# Altium footprint library quadcopter_pcb.PcbLib: 27 footprints (part 1 of 2)
Each footprint in its own frame and in the unit in brackets; x right, y up, seen from the top. Pads: shape width x height; smd on the part's side, far side on the other; paste and mask are expansions set on the pad; w line width, h text height; cw(c..) or ccw(c..) is an arc to the next point about the centre after c.
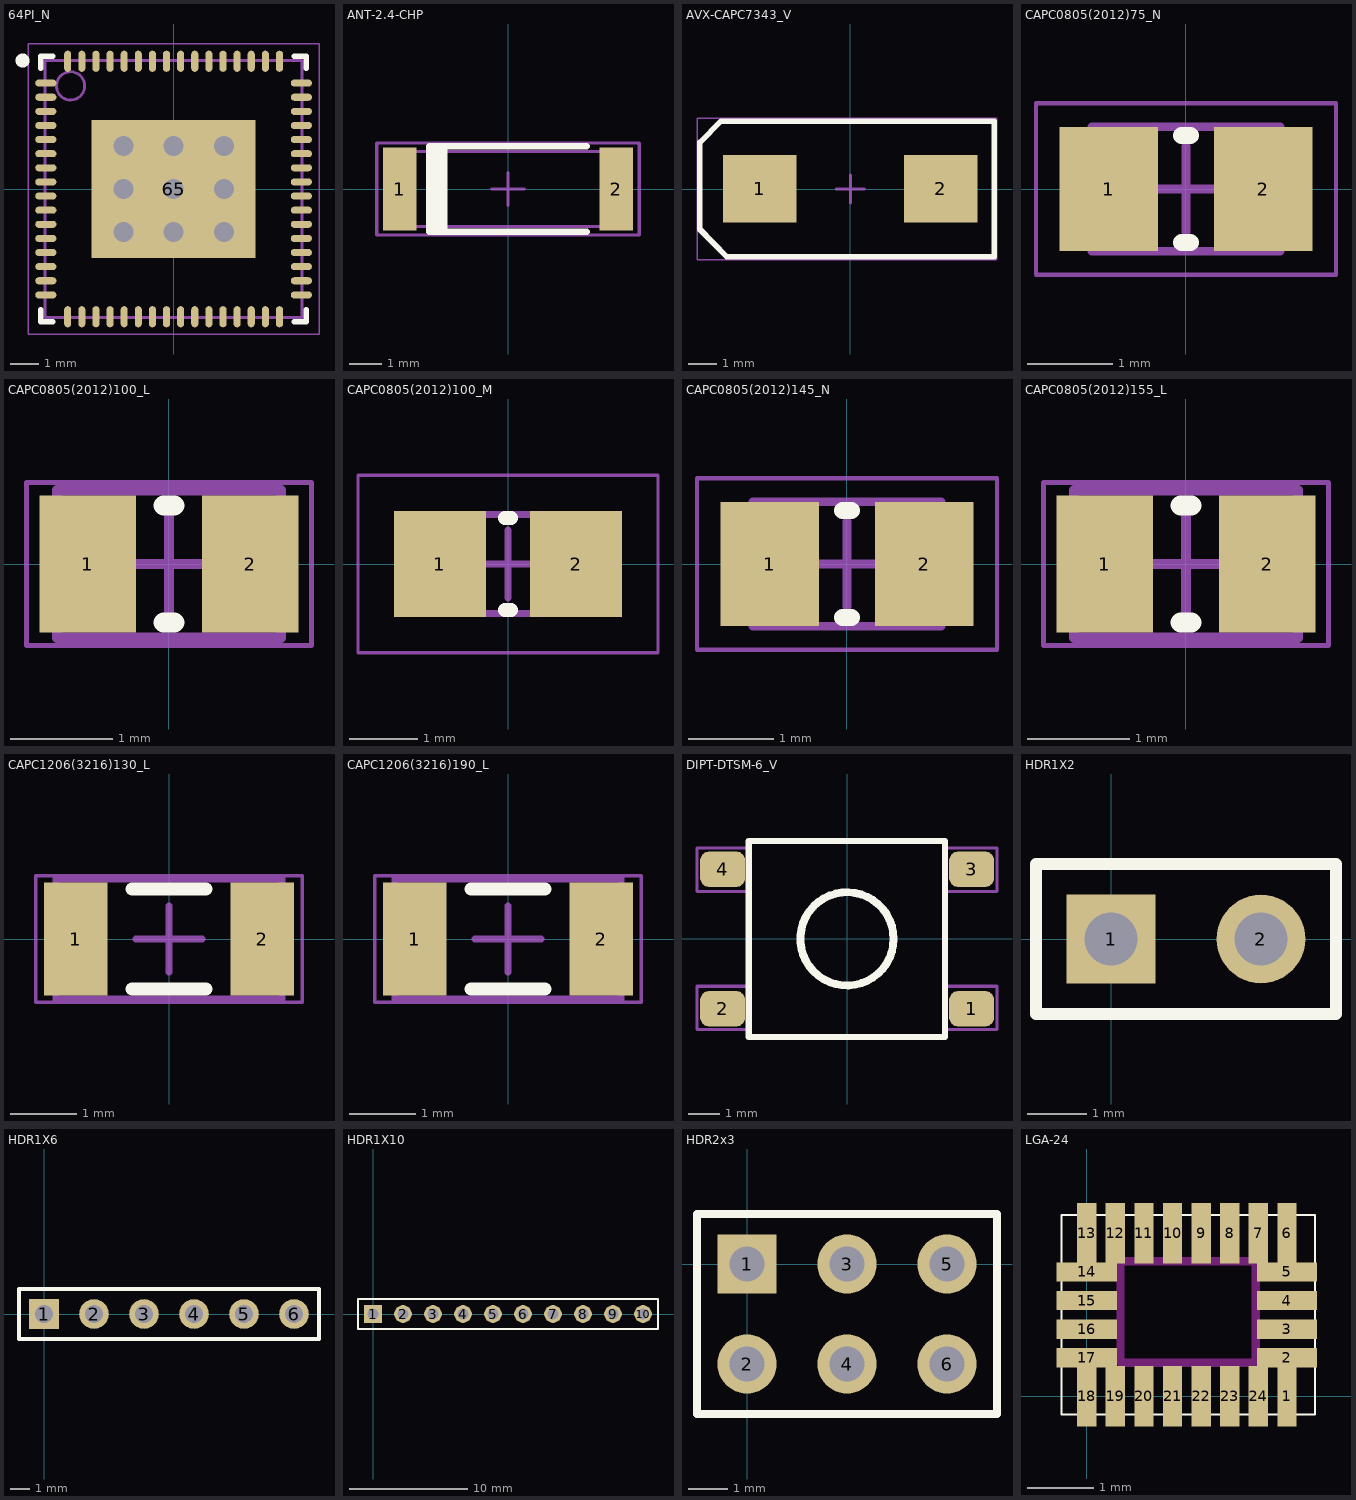
[diagram p0: the footprints below, top view; thin cyan lines are the x and y axes]

## 64PI_N [mm]
pads (65):
  oval 0.75x0.25 smd: 1(-4.525,3.75) 2(-4.525,3.25) 3(-4.525,2.75) 4(-4.525,2.25) 5(-4.525,1.75) 6(-4.525,1.25) 7(-4.525,0.75) 8(-4.525,0.25) 9(-4.525,-0.25) 10(-4.525,-0.75) 11(-4.525,-1.25) 12(-4.525,-1.75) 13(-4.525,-2.25) 14(-4.525,-2.75) 15(-4.525,-3.25) 16(-4.525,-3.75) 33(4.525,-3.75) 34(4.525,-3.25) 35(4.525,-2.75) 36(4.525,-2.25) 37(4.525,-1.75) 38(4.525,-1.25) 39(4.525,-0.75) 40(4.525,-0.25) 41(4.525,0.25) 42(4.525,0.75) 43(4.525,1.25) 44(4.525,1.75) 45(4.525,2.25) 46(4.525,2.75) 47(4.525,3.25) 48(4.525,3.75)
  oval 0.25x0.75 smd: 17(-3.75,-4.525) 18(-3.25,-4.525) 19(-2.75,-4.525) 20(-2.25,-4.525) 21(-1.75,-4.525) 22(-1.25,-4.525) 23(-0.75,-4.525) 24(-0.25,-4.525) 25(0.25,-4.525) 26(0.75,-4.525) 27(1.25,-4.525) 28(1.75,-4.525) 29(2.25,-4.525) 30(2.75,-4.525) 31(3.25,-4.525) 32(3.75,-4.525) 49(3.75,4.525) 50(3.25,4.525) 51(2.75,4.525) 52(2.25,4.525) 53(1.75,4.525) 54(1.25,4.525) 55(0.75,4.525) 56(0.25,4.525) 57(-0.25,4.525) 58(-0.75,4.525) 59(-1.25,4.525) 60(-1.75,4.525) 61(-2.25,4.525) 62(-2.75,4.525) 63(-3.25,4.525) 64(-3.75,4.525)
  rect 5.8x4.9 smd: 65(0,0)
via -1.778,1.524 diameter 1.27 hole 0.711
via 0,1.524 diameter 1.27 hole 0.711
via 1.778,1.524 diameter 1.27 hole 0.711
via 1.778,0 diameter 1.27 hole 0.711
via 0,0 diameter 1.27 hole 0.711
via -1.778,0 diameter 1.27 hole 0.711
via -1.778,-1.524 diameter 1.27 hole 0.711
via 0,-1.524 diameter 1.27 hole 0.711
via 1.778,-1.524 diameter 1.27 hole 0.711
Top Overlay:
  circle w0.25: c-5.35,4.55 r0.125
  lines w0.2: -4.7,-4.275 -4.7,-4.7 -4.275,-4.7 ; -4.7,4.275 -4.7,4.7 -4.275,4.7 ; 4.275,-4.7 4.7,-4.7 4.7,-4.275 ; 4.275,4.7 4.7,4.7 4.7,4.275
Mechanical 13:
  circle w0.1: c-3.65,3.65 r0.5
  lines w0.1: -4.55,-4.55 4.55,-4.55 4.55,4.55 -4.55,4.55 -4.55,-4.55
Mechanical 15:
  lines w0.05: -5.15,-5.15 5.15,-5.15 5.15,5.15 -5.15,5.15 -5.15,-5.15
  lines w0.1: -0.5,0 0.5,0 ; 0,-0.5 0,0.5
3D body: height 0.9, standoff 0, extent -4.55,-4.55 4.55,4.55

## ANT-2.4-CHP [mil]
pads (2):
  rect 40x100 smd: 1(-130,0) 2(130,0)
Top Overlay:
  rectangle: -94.48,-51.18 -72.83,51.18
  lines w7.87: 94.49,-51.18 -94.49,-51.18 -94.49,51.18 94.49,51.18
Mechanical 13:
  lines w3.94: -130,-45 -130,45 130,45 130,-45 -130,-45
Mechanical 15:
  lines w3.94: -19.69,0 19.68,0 ; 0,-19.68 0,19.69 ; 157.48,-55.12 157.48,55.12 ; 157.48,-55.12 157.48,-55.12 ; 157.48,-55.12 -157.48,-55.12 -157.48,55.12 157.48,55.12 ; 157.48,-55.12 157.48,55.12 ; 157.48,55.12 157.48,55.12
3D body: height 40, standoff 0, extent -130,-45 130,45

## AVX-CAPC7343_V [mm]
pads (2):
  rect 2.6x2.4 smd: 1(-3.202,0.007) 2(3.198,0.007)
Top Overlay:
  lines w0.2: -4.369,-2.4 5.08,-2.4 5.08,2.4 -4.575,2.4 -5.325,1.65 -5.325,-1.425 -4.362,-2.4
Mechanical 15:
  lines w0.05: -5.425,-2.5 -5.425,2.5 5.18,2.5 5.18,-2.5 -5.425,-2.5
  lines w0.1: -0.5,0 0.5,0 ; 0,-0.5 0,0.5
3D body "TAJD227K010R.step": height 2.9, standoff 0, extent -3.473,-2.032 3.473,2.039
3D body: height 0.3, standoff 0, extent -3.487,-0.869 -3.392,0.82
3D body: height 0.3, standoff 0, extent 3.308,-0.855 3.512,0.915

## CAPC0805(2012)75_N [mm]
pads (2):
  rect 1.15x1.45 smd: 1(-0.9,0) 2(0.9,0)
Top Overlay:
  lines w0.2: -0.05,-0.625 0.05,-0.625 ; -0.05,0.625 0.05,0.625
Mechanical 13:
  lines w0.1: -1.1,-0.725 1.1,-0.725 1.1,0.725 -1.1,0.725 -1.1,-0.725
Mechanical 15:
  lines w0.05: -1.75,-1 1.75,-1 1.75,1 -1.75,1 -1.75,-1
  lines w0.1: -0.5,0 0.5,0 ; 0,-0.5 0,0.5
3D body: height 0.75, standoff 0, extent 0.6,-0.725 1.1,0.725
3D body: height 0.75, standoff 0, extent -1.1,-0.725 -0.6,0.725
3D body: height 0.75, standoff 0, extent -0.6,-0.725 0.6,0.725

## CAPC0805(2012)100_L [mm]
pads (2):
  rect 0.95x1.35 smd: 1(-0.8,0) 2(0.8,0)
Top Overlay:
  lines w0.2: -0.05,-0.575 0.05,-0.575 ; -0.05,0.575 0.05,0.575
Mechanical 13:
  lines w0.1: -1.1,-0.725 -1.1,0.725 1.1,0.725 1.1,-0.725 -1.1,-0.725
Mechanical 15:
  lines w0.05: -1.4,-0.8 -1.4,0.8 1.4,0.8 1.4,-0.8 -1.4,-0.8
  lines w0.1: -0.5,0 0.5,0 ; 0,-0.5 0,0.5
3D body: height 1, standoff 0, extent -0.6,-0.725 0.6,0.725
3D body: height 1, standoff 0, extent -1.1,-0.725 -0.6,0.725
3D body: height 1, standoff 0, extent 0.6,-0.725 1.1,0.725

## CAPC0805(2012)100_M [mm]
pads (2):
  rect 1.35x1.55 smd: 1(-1,0) 2(1,0)
Top Overlay:
  lines w0.2: -0.05,-0.675 0.05,-0.675 ; -0.05,0.675 0.05,0.675
Mechanical 13:
  lines w0.1: -1.1,-0.725 -1.1,0.725 1.1,0.725 1.1,-0.725 -1.1,-0.725
Mechanical 15:
  lines w0.05: -2.2,-1.3 -2.2,1.3 2.2,1.3 2.2,-1.3 -2.2,-1.3
  lines w0.1: -0.5,0 0.5,0 ; 0,-0.5 0,0.5
3D body: height 1, standoff 0, extent -0.6,-0.725 0.6,0.725
3D body: height 1, standoff 0, extent -1.1,-0.725 -0.6,0.725
3D body: height 1, standoff 0, extent 0.6,-0.725 1.1,0.725

## CAPC0805(2012)145_N [mm]
pads (2):
  rect 1.15x1.45 smd: 1(-0.9,0) 2(0.9,0)
Top Overlay:
  lines w0.2: -0.05,-0.625 0.05,-0.625 ; -0.05,0.625 0.05,0.625
Mechanical 13:
  lines w0.1: -1.1,-0.725 -1.1,0.725 1.1,0.725 1.1,-0.725 -1.1,-0.725
Mechanical 15:
  lines w0.05: -1.75,-1 -1.75,1 1.75,1 1.75,-1 -1.75,-1
  lines w0.1: -0.5,0 0.5,0 ; 0,-0.5 0,0.5
3D body: height 1.45, standoff 0, extent -0.6,-0.725 0.6,0.725
3D body: height 1.45, standoff 0, extent -1.1,-0.725 -0.6,0.725
3D body: height 1.45, standoff 0, extent 0.6,-0.725 1.1,0.725

## CAPC0805(2012)155_L [mm]
pads (2):
  rect 0.95x1.35 smd: 1(-0.8,0) 2(0.8,0)
Top Overlay:
  lines w0.2: -0.05,-0.575 0.05,-0.575 ; -0.05,0.575 0.05,0.575
Mechanical 13:
  lines w0.1: -1.1,-0.725 -1.1,0.725 1.1,0.725 1.1,-0.725 -1.1,-0.725
Mechanical 15:
  lines w0.05: -1.4,-0.8 -1.4,0.8 1.4,0.8 1.4,-0.8 -1.4,-0.8
  lines w0.1: -0.5,0 0.5,0 ; 0,-0.5 0,0.5
3D body: height 1.55, standoff 0, extent -0.6,-0.725 0.6,0.725
3D body: height 1.55, standoff 0, extent -1.1,-0.725 -0.6,0.725
3D body: height 1.55, standoff 0, extent 0.6,-0.725 1.1,0.725

## CAPC1206(3216)130_L [mm]
pads (2):
  rect 0.95x1.7 smd: 1(-1.4,0) 2(1.4,0)
Top Overlay:
  lines w0.2: -0.55,-0.75 0.55,-0.75 ; -0.55,0.75 0.55,0.75
Mechanical 13:
  lines w0.1: -1.7,-0.9 -1.7,0.9 1.7,0.9 1.7,-0.9 -1.7,-0.9
Mechanical 15:
  lines w0.05: -2,-0.95 -2,0.95 2,0.95 2,-0.95 -2,-0.95
  lines w0.1: -0.5,0 0.5,0 ; 0,-0.5 0,0.5
3D body: height 1.3, standoff 0, extent -1.2,-0.9 1.2,0.9
3D body: height 1.3, standoff 0, extent -1.7,-0.9 -1.2,0.9
3D body: height 1.3, standoff 0, extent 1.2,-0.9 1.7,0.9

## CAPC1206(3216)190_L [mm]
pads (2):
  rect 0.95x1.7 smd: 1(-1.4,0) 2(1.4,0)
Top Overlay:
  lines w0.2: -0.55,-0.75 0.55,-0.75 ; -0.55,0.75 0.55,0.75
Mechanical 13:
  lines w0.1: -1.7,-0.9 -1.7,0.9 1.7,0.9 1.7,-0.9 -1.7,-0.9
Mechanical 15:
  lines w0.05: -2,-0.95 -2,0.95 2,0.95 2,-0.95 -2,-0.95
  lines w0.1: -0.5,0 0.5,0 ; 0,-0.5 0,0.5
3D body: height 1.9, standoff 0, extent -1.2,-0.9 1.2,0.9
3D body: height 1.9, standoff 0, extent -1.7,-0.9 -1.2,0.9
3D body: height 1.9, standoff 0, extent 1.2,-0.9 1.7,0.9

## DIPT-DTSM-6_V [mm]
pads (4):
  rrect50% 1.448x1.143 smd: 1(4.01,-2.25) 2(-4,-2.25) 3(4.01,2.24) 4(-4,2.24)
Top Overlay:
  circle w0.254: c0,0 r1.5
  lines w0.2: -3.16,-3.16 3.15,-3.16 3.15,3.15 -3.16,3.15 -3.16,-3.16
Mechanical 7:
  circle w0.1: c0,0 r1.5
  lines w0.1: -3.16,-2.921 -4.826,-2.921 -4.826,-1.524 -3.16,-1.524 ; -3.16,1.524 -4.826,1.524 -4.826,2.921 -3.16,2.921 ; 3.15,-2.921 4.826,-2.921 4.826,-1.524 3.15,-1.524 ; 3.15,1.524 4.826,1.524 4.826,2.921 3.15,2.921 ; -3.16,-3.16 -3.16,3.15 3.15,3.15 3.15,-3.16 -3.16,-3.16
  text ".Designator" at -2.9,2.1 h1.2
  text ".Comment" at -2.9,-2.6 h1.2
3D body "Switch SPNO - DTSM-6.stp": height 4.5, standoff 0, extent -4.5,-3.1 4.5,3.1

## HDR1X2 [mm]
pads (2):
  rect 1.5x1.5 hole 0.9: 1(0,0)
  round 1.5 hole 0.9: 2(2.54,0)
Top Overlay:
  lines w0.2: -1.27,-1.27 -1.27,1.27 3.81,1.27 3.81,-1.27 -1.27,-1.27

## HDR1X6 [mm]
pads (6):
  rect 1.5x1.5 hole 0.9: 1(0,0)
  round 1.5 hole 0.9: 2(2.54,0) 3(5.08,0) 4(7.62,0) 5(10.16,0) 6(12.7,0)
Top Overlay:
  lines w0.2: -1.27,-1.27 -1.27,1.27 13.97,1.27 13.97,-1.27 -1.27,-1.27

## HDR1X10 [mm]
pads (10):
  rect 1.5x1.5 hole 0.9: 1(0,0)
  round 1.5 hole 0.9: 2(2.54,0) 3(5.08,0) 4(7.62,0) 5(10.16,0) 6(12.7,0) 7(15.24,0) 8(17.78,0) 9(20.32,0) 10(22.86,0)
Top Overlay:
  lines w0.2: -1.27,-1.27 -1.27,1.27 24.13,1.27 24.13,-1.27 -1.27,-1.27

## HDR2x3 [mm]
pads (6):
  rect 1.5x1.5 hole 0.9: 1(0,0)
  round 1.5 hole 0.9: 2(0,-2.54) 3(2.54,0) 4(2.54,-2.54) 5(5.08,0) 6(5.08,-2.54)
Top Overlay:
  lines w0.2: -1.27,-3.81 -1.27,1.27 6.35,1.27 6.35,-3.81 -1.27,-3.81

## LGA-24 [mm]
pads (24):
  rect 0.29x0.908 smd paste-25.4 mask-25.4: 1(3.01,0) 6(3.01,2.45) 7(2.58,2.45) 8(2.15,2.45) 9(1.72,2.45) 10(1.29,2.45) 11(0.86,2.45) 12(0.43,2.45) 13(0,2.45) 18(0,0) 19(0.43,0) 20(0.86,0) 21(1.29,0) 22(1.72,0) 23(2.15,0) 24(2.58,0)
  rect 0.908x0.29 smd paste-25.4 mask-25.4: 2(3.01,0.58) 3(3.01,1.01) 4(3.01,1.44) 5(3.01,1.87) 14(0,1.87) 15(0,1.44) 16(0,1.01) 17(0,0.58)
Top Overlay:
  lines w0.03: -0.381,-0.275 3.429,-0.275 3.429,2.725 -0.381,2.725 -0.381,-0.275
Top Paste:
  region: 3.155,2.65 2.865,2.65 2.865,2.25 3.155,2.25
  region: 2.81,2.015 2.81,1.725 3.21,1.725 3.21,2.015
  region: 2.81,1.585 2.81,1.295 3.21,1.295 3.21,1.585
  region: 2.81,1.155 2.81,0.865 3.21,0.865 3.21,1.155
  region: 2.81,0.725 2.81,0.435 3.21,0.435 3.21,0.725
  region: 2.865,-0.2 3.155,-0.2 3.155,0.2 2.865,0.2
  region: 2.435,-0.2 2.725,-0.2 2.725,0.2 2.435,0.2
  region: 2.005,-0.2 2.295,-0.2 2.295,0.2 2.005,0.2
  region: 1.575,-0.2 1.865,-0.2 1.865,0.2 1.575,0.2
  region: 1.145,-0.2 1.435,-0.2 1.435,0.2 1.145,0.2
  region: 0.715,-0.2 1.005,-0.2 1.005,0.2 0.715,0.2
  region: 0.285,-0.2 0.575,-0.2 0.575,0.2 0.285,0.2
  region: -0.145,-0.2 0.145,-0.2 0.145,0.2 -0.145,0.2
  region: 0.2,0.435 0.2,0.725 -0.2,0.725 -0.2,0.435
  region: 0.2,0.865 0.2,1.155 -0.2,1.155 -0.2,0.865
  region: 0.2,1.295 0.2,1.585 -0.2,1.585 -0.2,1.295
  region: 0.2,1.725 0.2,2.015 -0.2,2.015 -0.2,1.725
  region: 0.145,2.65 -0.145,2.65 -0.145,2.25 0.145,2.25
  region: 0.575,2.65 0.285,2.65 0.285,2.25 0.575,2.25
  region: 1.005,2.65 0.715,2.65 0.715,2.25 1.005,2.25
  region: 1.435,2.65 1.145,2.65 1.145,2.25 1.435,2.25
  region: 1.865,2.65 1.575,2.65 1.575,2.25 1.865,2.25
  region: 2.295,2.65 2.005,2.65 2.005,2.25 2.295,2.25
  region: 2.725,2.65 2.435,2.65 2.435,2.25 2.725,2.25
Top Solder:
  region: 3.255,3.238 2.794,3.238 2.794,2.15 3.255,2.15
  region: 2.71,2.095 2.71,1.676 3.746,1.676 3.746,2.095
  region: 2.71,1.651 2.71,1.245 3.746,1.245 3.746,1.651
  region: 2.71,1.219 2.71,0.813 3.746,0.813 3.746,1.219
  region: 2.71,0.787 2.71,0.356 3.746,0.356 3.746,0.787
  region: 2.807,-0.762 3.255,-0.762 3.255,0.3 2.807,0.3
  region: 2.375,-0.762 2.781,-0.762 2.781,0.3 2.375,0.3
  region: 1.956,-0.762 2.349,-0.762 2.349,0.3 1.956,0.3
  region: 1.524,-0.762 1.93,-0.762 1.93,0.3 1.524,0.3
  region: 1.079,-0.762 1.499,-0.762 1.499,0.3 1.079,0.3
  region: 0.66,-0.762 1.054,-0.762 1.054,0.3 0.66,0.3
  region: 0.229,-0.762 0.635,-0.762 0.635,0.3 0.229,0.3
  region: -0.245,-0.762 0.203,-0.762 0.203,0.3 -0.245,0.3
  region: 0.3,0.356 0.3,0.775 -0.762,0.775 -0.762,0.356
  region: 0.3,0.8 0.3,1.219 -0.762,1.219 -0.762,0.8
  region: 0.3,1.245 0.3,1.638 -0.762,1.638 -0.762,1.245
  region: 0.3,1.664 0.3,2.095 -0.762,2.095 -0.762,1.664
  region: 0.203,3.238 -0.229,3.238 -0.229,2.15 0.203,2.15
  region: 0.635,3.238 0.229,3.238 0.229,2.15 0.635,2.15
  region: 1.067,3.238 0.66,3.238 0.66,2.15 1.067,2.15
  region: 1.499,3.238 1.092,3.238 1.092,2.15 1.499,2.15
  region: 1.93,3.238 1.524,3.238 1.524,2.15 1.93,2.15
  region: 2.362,3.238 1.956,3.238 1.956,2.15 2.362,2.15
  region: 2.769,3.238 2.388,3.238 2.388,2.15 2.769,2.15
Keep-Out Layer:
  lines w0.127: 0.508,0.508 0.508,2.032 2.54,2.032 2.54,0.508 0.508,0.508